# EAGLE library part LTC-4627WC (library SW_Display)
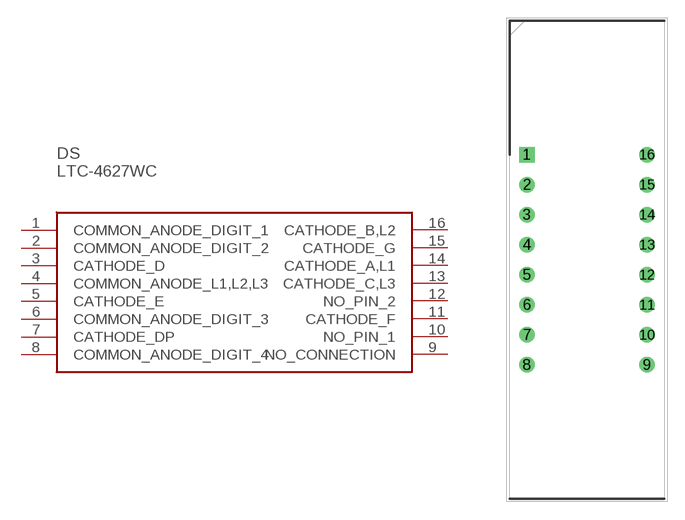
[diagram p2: symbol with the pads of DIPS1016W50P254L4018H725Q16N; footprint DIPS1016W50P254L4018H725Q16N]

Designator prefix DS

## LTC-4627WC (CATEGORY: Display; DESCRIPTION: LED Displays & Accessories 4 Digit, Red Low Current; MFGS: Lite-On; MPNS: LTC-4627WC)  [DIPS1016W50P254L4018H725Q16N]
1  COMMON_ANODE_DIGIT_1
2  COMMON_ANODE_DIGIT_2
3  CATHODE_D
4  COMMON_ANODE_L1,L2,L3
5  CATHODE_E
6  COMMON_ANODE_DIGIT_3
7  CATHODE_DP
8  COMMON_ANODE_DIGIT_4
9  NO_CONNECTION
10  NO_PIN_1
11  CATHODE_F
12  NO_PIN_2
13  CATHODE_C,L3
14  CATHODE_A,L1
15  CATHODE_G
16  CATHODE_B,L2

## Footprint DIPS1016W50P254L4018H725Q16N (pad centres in mm)
LTC-4627WC
drill 0.8 pad 1.2 square: 1 0,0
drill 0.8 pad 1.2: 2 0,-2.54; 3 0,-5.08; 4 0,-7.62; 5 0,-10.16; 6 0,-12.7; 7 0,-15.24; 8 0,-17.78; 9 10.16,-17.78; 10 10.16,-15.24; 11 10.16,-12.7; 12 10.16,-10.16; 13 10.16,-7.62; 14 10.16,-5.08; 15 10.16,-2.54; 16 10.16,0